# Altium schematic symbol library PCB.SCHLIB: 1 symbol
Pins are listed as number, name and electrical type; pins without a type are passive.

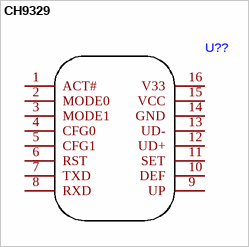
[diagram p0: symbol CH9329]

## CH9329
designator U??
footprint SOP-16_150MILCH9328
pins: 1 ACT#, 2 MODE0, 3 MODE1, 4 CFG0, 5 CFG1, 6 RST, 7 TXD, 8 RXD, 9 UP, 10 DEF, 11 SET, 12 UD+, 13 UD-, 14 GND, 15 VCC, 16 V33